# EAGLE library part LT1073CN8-5 (library inode)
LT1073CN8-5 (LT1073 - Linear Technology) Micropower DC/DC Converter Adjustable and Fixed 5V, 12V http://cds.linear.com/docs/en/datasheet/1073fa.pdf
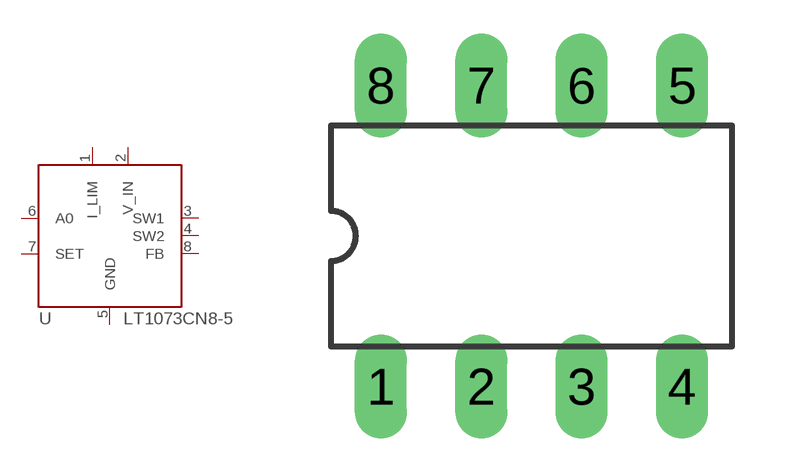
[diagram p2: symbol with the pads of DIL08; footprint DIL08]

Designator prefix -

## LT1073CN8-5  [DIL08]
1  I_LIM
2  V_IN
3  SW1
4  SW2
5  GND
6  A0
7  SET
8  FB

## Footprint DIL08 (pad centres in mm)
drill 0.813 long: 1 -3.81,-3.81; 2 -1.27,-3.81; 3 1.27,-3.81; 4 3.81,-3.81; 5 3.81,3.81; 6 1.27,3.81; 7 -1.27,3.81; 8 -3.81,3.81